# Altium footprint library 4.25-LS-3.81连接器.PcbLib: 1 footprints
Each footprint in its own frame and in the unit in brackets; x right, y up, seen from the top. Pads: shape width x height; smd on the part's side, far side on the other; paste and mask are expansions set on the pad; w line width, h text height; cw(c..) or ccw(c..) is an arc to the next point about the centre after c.
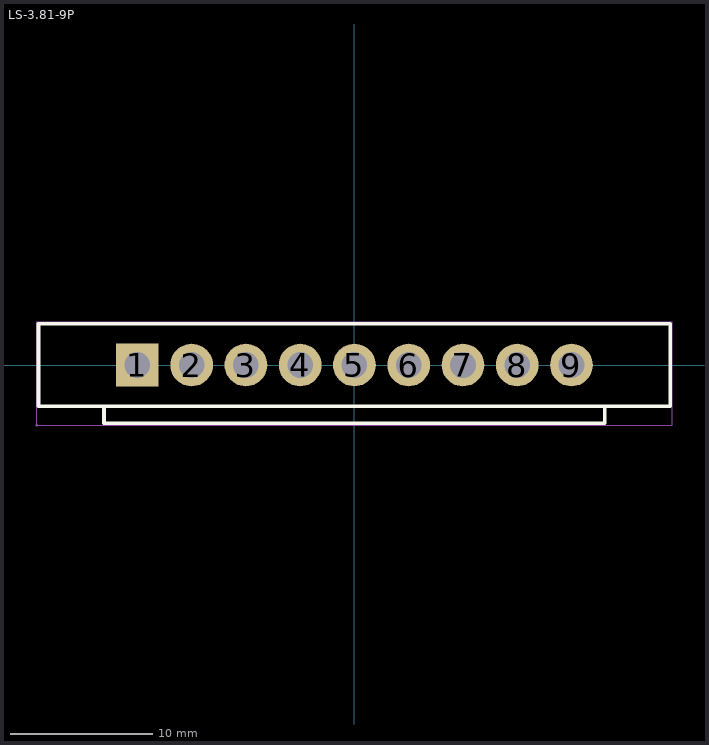
[diagram p0: the footprint, top view; thin cyan lines are the x and y axes]

## LS-3.81-9P [mm]
pads (9):
  rect 3x3 hole 1.8: 1(-15.24,0)
  round 3 hole 1.8: 2(-11.43,0) 3(-7.62,0) 4(-3.81,0) 5(0,0) 6(3.81,0) 7(7.62,0) 8(11.43,0) 9(15.24,0)
Top Overlay:
  lines w0.254: -17.585,-2.9 -17.585,-4.1 17.585,-4.1 17.585,-2.9 ; -22.185,-2.9 22.185,-2.9 22.185,2.9 -22.185,2.9 -22.185,-2.9
Mechanical 15:
  drawing of 14 lines, arcs and shapes, not listed
3D body "CONN-TH_WJ15EDGVM-3.81-9P.STEP": height 9.15, standoff -3.5, extent -22.185,-4.4 22.185,2.9